# Altium footprint library PCB - LEADED - SOP - TI SSOP-8 DCT0008A.PcbLib: 1 footprints
Each footprint in its own frame and in the unit in brackets; x right, y up, seen from the top. Pads: shape width x height; smd on the part's side, far side on the other; paste and mask are expansions set on the pad; w line width, h text height; cw(c..) or ccw(c..) is an arc to the next point about the centre after c.
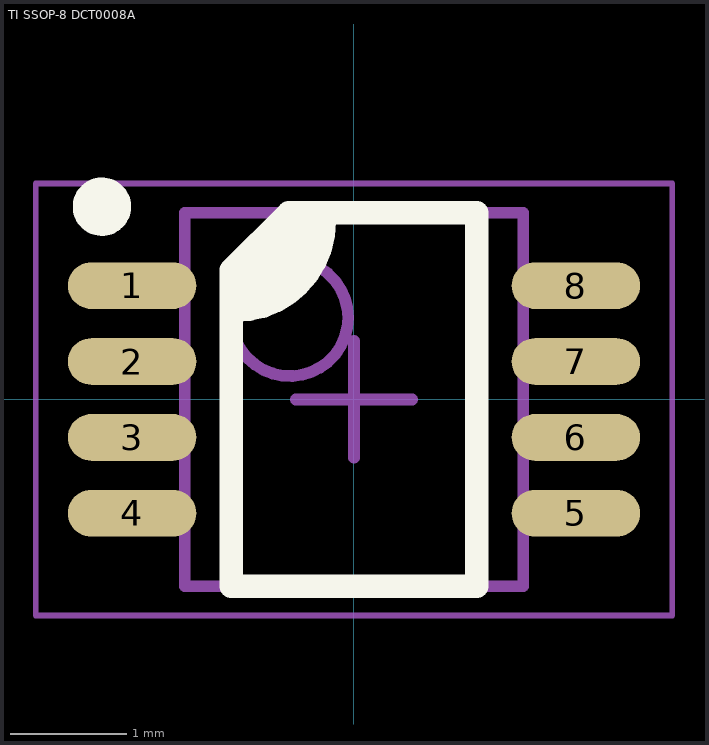
[diagram p0: the footprint, top view; thin cyan lines are the x and y axes]

## TI SSOP-8 DCT0008A [mm] "SSOP, 8-Leads, Body 2.95x2.80mm, Pitch 0.65mm, IPC Medium Density"
height 1.3
pads (8):
  oval 1.1x0.4 smd: 1(-1.9,0.975) 2(-1.9,0.325) 3(-1.9,-0.325) 4(-1.9,-0.975) 5(1.9,-0.975) 6(1.9,-0.325) 7(1.9,0.325) 8(1.9,0.975)
Top Overlay:
  circle w0.25: c-2.159,1.651 r0.125
  region: -0.559,1.6 -0.483,1.524 -0.254,1.524 -0.254,1.27 -0.762,0.762 -1.016,0.762 -1.016,1.075 -1.05,1.109
  lines w0.2: -1.016,0.762 ccw(c-1.016,1.524) -0.254,1.524 ; -1.05,-1.6 -1.05,1.109 -0.559,1.6 1.05,1.6 1.05,-1.6 -1.05,-1.6
Mechanical 13:
  circle w0.1: c-0.55,0.7 r0.5
  lines w0.1: -1.45,-1.6 -1.45,1.6 1.45,1.6 1.45,-1.6 -1.45,-1.6
Mechanical 15:
  lines w0.05: -2.725,-1.85 -2.725,1.85 2.725,1.85 2.725,-1.85 -2.725,-1.85
  lines w0.1: -0.5,0 0.5,0 ; 0,-0.5 0,0.5
3D body "TI SSOP-8 DCT0008A.step": height 1.3, standoff 0, extent -2,-1.6 2,1.6